# EAGLE library part CD4532 (library mb3_integrated circuits)
Multiplexer Through-Hole CD4532: http://www.mouser.com/ProductDetail/Texas-Instruments/CD4532BE/?qs=sGAEpiMZZMtxONTBFIcRfq4mebfZO%252bELCWOSfNWACPU%3d Surface Mount CD4532: http://www.mouser.com/ProductDetail/Texas-Instruments/CD4532BM96/?qs=sGAEpiMZZMtxONTBFIcRfil%2fstwym1XXXXsVWL07rsE%3d
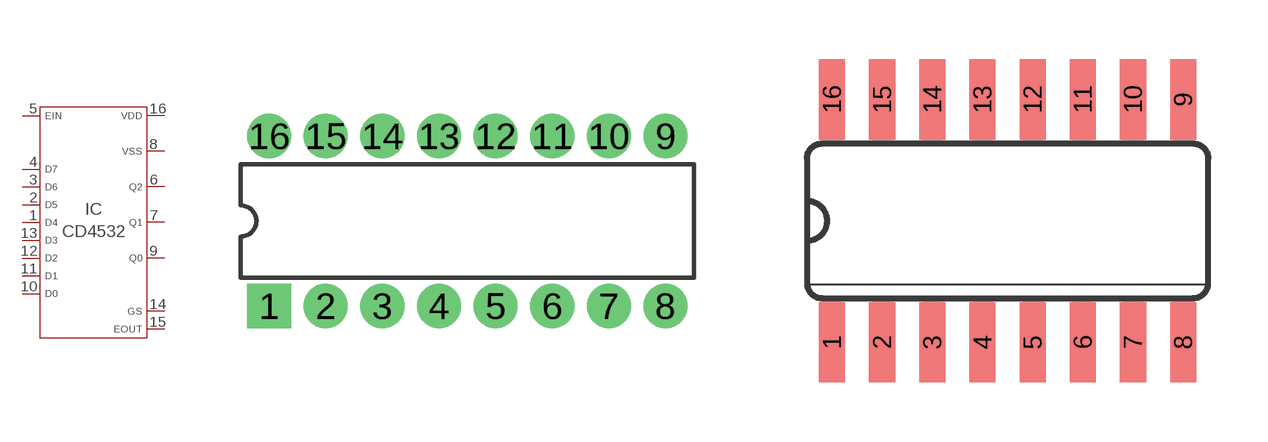
[diagram p28: symbol with the pads of DIP16; footprints DIP16, SO16]

Designator prefix IC

## CD4532_TH  [DIP16]
1  1
2  2
3  3
4  4
5  5
6  6
7  7
8  8
9  9
10  10
11  11
12  12
13  13
14  14
15  15
16  16

## CD4532_SMD  [SO16]
Pads as for DIP16

## Footprint DIP16 (pad centres in mm)
Dual In Line Package
drill 1 pad 1.981 square: 1 -8.89,-3.81
drill 1 pad 1.981: 2 -6.35,-3.81; 3 -3.81,-3.81; 4 -1.27,-3.81; 5 1.27,-3.81; 6 3.81,-3.81; 7 6.35,-3.81; 8 8.89,-3.81; 9 8.89,3.81; 10 6.35,3.81; 11 3.81,3.81; 12 1.27,3.81; 13 -1.27,3.81; 14 -3.81,3.81; 15 -6.35,3.81; 16 -8.89,3.81

## Footprint SO16 (pad centres in mm)
Small Outline package 150 mil
smd 0.66 x 2.032: 1 -4.445,-3.073; 2 -3.175,-3.073; 3 -1.905,-3.073; 4 -0.635,-3.073; 5 0.635,-3.073; 6 1.905,-3.073; 7 3.175,-3.073; 8 4.445,-3.073; 9 4.445,3.073; 10 3.175,3.073; 11 1.905,3.073; 12 0.635,3.073; 13 -0.635,3.073; 14 -1.905,3.073; 15 -3.175,3.073; 16 -4.445,3.073